# EAGLE library part X__ISP_AVR_LIEGEND (library ..SMD)
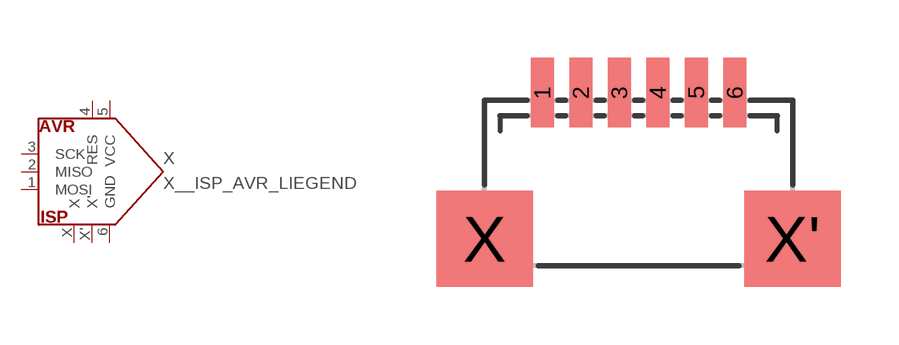
[diagram p353: symbol with the pads of JST_SH_LIEGEND_6; footprint JST_SH_LIEGEND_6]

Designator prefix X

## X__ISP_AVR_LIEGEND  [JST_SH_LIEGEND_6]
1  MOSI
2  MISO
3  SCK
4  RES
5  VCC
6  GND
X  X
X'  X'

## Footprint JST_SH_LIEGEND_6 (pad centres in mm)
smd 0.6 x 1.8: 1 0,0; 2 1,0; 3 2,0; 4 3,0; 5 4,0; 6 5,0
smd 2.5 x 2.5: X -1.5,-3.8; X' 6.5,-3.8